# EAGLE library part PIXART_WII_IR (library SpecialIC)
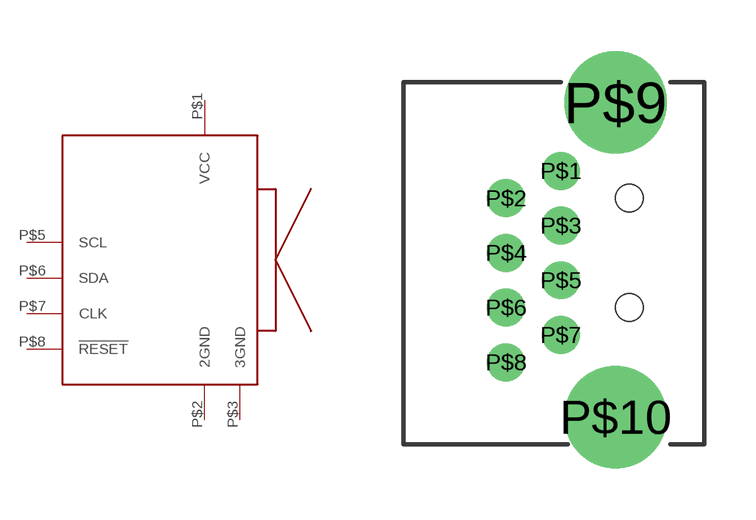
[diagram p6: symbol with the pads of PIXART_WII_IR; footprint PIXART_WII_IR]

Designator prefix -

## PIXART_WII_IR (PLACE_PART: YES)  [PIXART_WII_IR]
P$1  VCC
P$2  2GND
P$3  3GND
P$5  SCL
P$6  SDA
P$7  CLK
P$8  !RESET

## Footprint PIXART_WII_IR (pad centres in mm)
drill 0.6: P$1 0,3.2; P$2 -1.6,2.4; P$3 0,1.6; P$4 -1.6,0.8; P$5 0,0; P$6 -1.6,-0.8; P$7 0,-1.6; P$8 -1.6,-2.4
drill 2: P$9 1.6,5.2; P$10 1.6,-4
hole 0.8 at 2,2.4
hole 0.8 at 2,-0.8